# EAGLE library part DRV8835 (library DRV8835)
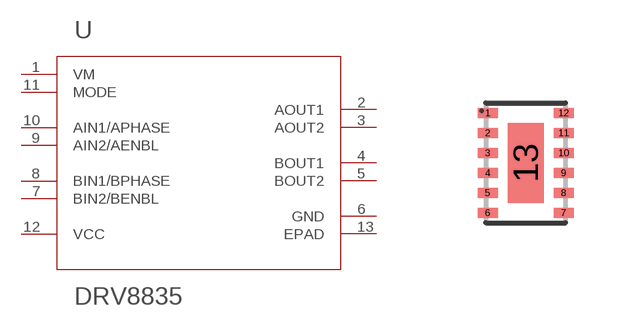
[diagram p0: symbol with the pads of 12-WFDFN; footprint 12-WFDFN]

Designator prefix -

## DRV8835  [12-WFDFN]
1  VM
2  AOUT1
3  AOUT2
4  BOUT1
5  BOUT2
6  GND
7  BIN2/BENBL
8  BIN1/BPHASE
9  AIN2/AENBL
10  AIN1/APHASE
11  MODE
12  VCC
13  EPAD

## Footprint 12-WFDFN (pad centres in mm)
smd 0.5 x 0.25: 1 -0.95,1.25; 2 -0.95,0.75; 3 -0.95,0.25; 4 -0.95,-0.25; 5 -0.95,-0.75; 6 -0.95,-1.25; 7 0.95,-1.25; 8 0.95,-0.75; 9 0.95,-0.25; 10 0.95,0.25; 11 0.95,0.75; 12 0.95,1.25
smd 0.9 x 2: 13 0,0